# EAGLE library part HK326-X (library JayCollett)
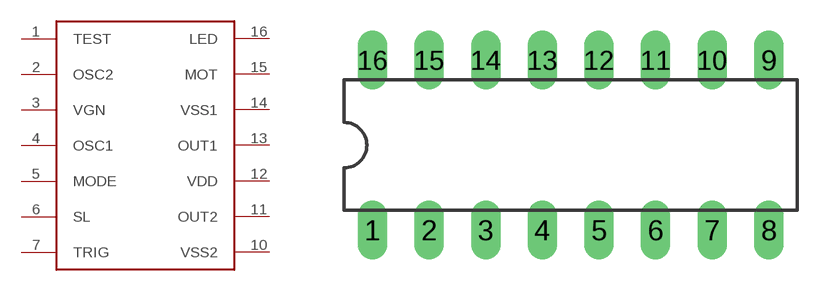
[diagram p2: symbol with the pads of DIL16; footprint DIL16]

Designator prefix -

## HK326-X  [DIL16]
1  TEST
2  OSC2
3  VGN
4  OSC1
5  MODE
6  SL
7  TRIG
10  VSS2
11  OUT2
12  VDD
13  OUT1
14  VSS1
15  MOT
16  LED

## Footprint DIL16 (pad centres in mm)
drill 0.813 long: 1 -11.43,-3.81; 2 -8.89,-3.81; 3 -6.35,-3.81; 4 -3.81,-3.81; 5 -1.27,-3.81; 6 1.27,-3.81; 7 3.81,-3.81; 8 6.35,-3.81; 9 6.35,3.81; 10 3.81,3.81; 11 1.27,3.81; 12 -1.27,3.81; 13 -3.81,3.81; 14 -6.35,3.81; 15 -8.89,3.81; 16 -11.43,3.81